# EAGLE library part SSW-107-02-S-S (library con-samtec)
THROUGH-HOLE .025" SQ POST SOCKET Source: Samtec SSW.pdf
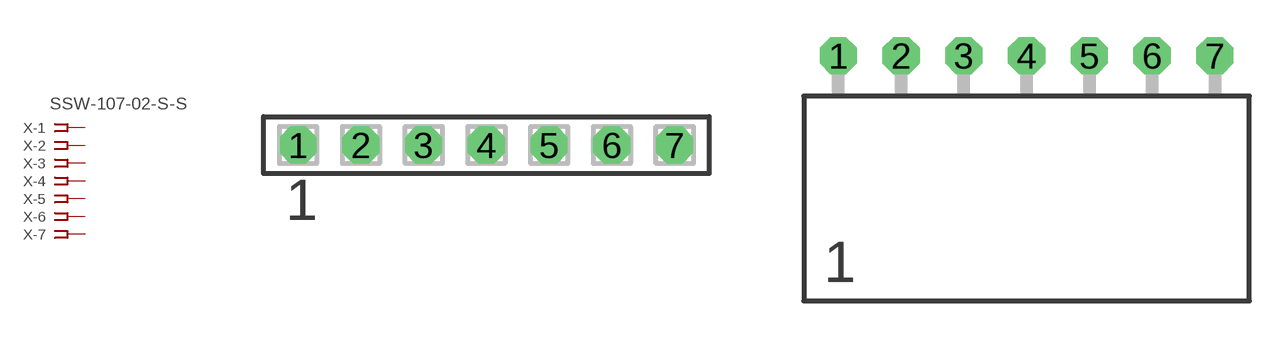
[diagram p97: symbol with the pads of SSW-107-02-S-S; footprints SSW-107-02-S-S, SSW-107-02-S-S-RA]

Designator prefix X; gates -1=FPINV -2=FPIN -3=FPIN -4=FPIN -5=FPIN -6=FPIN -7=FPIN

## SSW-107-02-S-S  [SSW-107-02-S-S]
1  -1:1  pas
2  -2:1  pas
3  -3:1  pas
4  -4:1  pas
5  -5:1  pas
6  -6:1  pas
7  -7:1  pas

## SSW-107-02-S-S-RA  [SSW-107-02-S-S-RA]
Pads as for SSW-107-02-S-S

## Footprint SSW-107-02-S-S (pad centres in mm)
THROUGH-HOLE .025" SQ POST SOCKET Source: Samtec SSW.pdf
drill 1 pad 1.5 octagon: 1 -7.62,0; 2 -5.08,0; 3 -2.54,0; 4 0,0; 5 2.54,0; 6 5.08,0; 7 7.62,0

## Footprint SSW-107-02-S-S-RA (pad centres in mm)
THROUGH-HOLE .025" SQ POST SOCKET Source: Samtec SSW.pdf
drill 1 pad 1.5 octagon: 1 -7.62,1.524; 2 -5.08,1.524; 3 -2.54,1.524; 4 0,1.524; 5 2.54,1.524; 6 5.08,1.524; 7 7.62,1.524